# Altium schematic symbol library Resistors.SchLib: 3 symbols
Pins are listed as number, name and electrical type; pins without a type are passive.

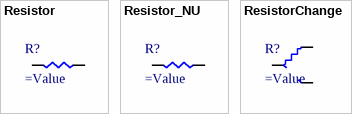
[diagram p0: symbols Resistor to ResistorChange]

## Resistor
designator R?
pins: 1, 2

## Resistor_NU
designator R?  (no BOM)
pins: 1, 2

## ResistorChange
designator R?
pins: 1, 2, 3